# EAGLE library part LTC2266/67/68-14 (library linear-technology)
DUAL ADC 14-Bit, 125Msps/105Msps/80Msps Low Power
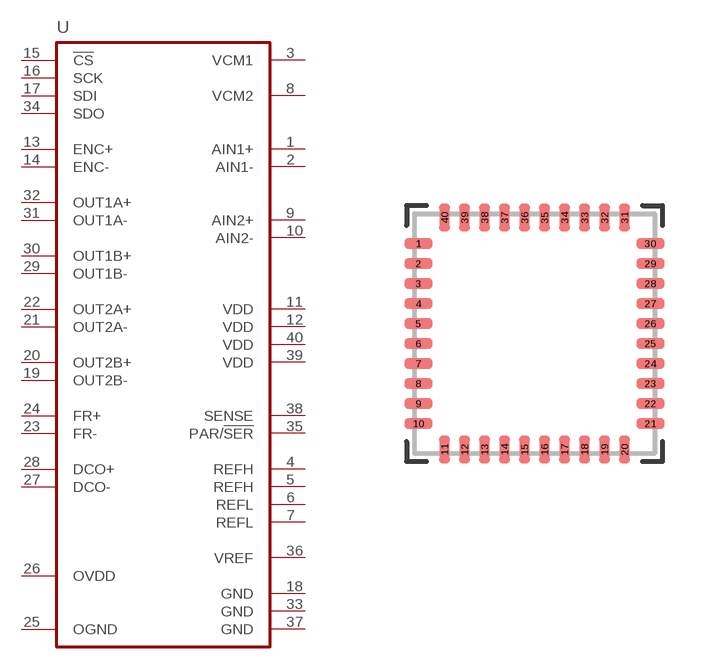
[diagram p45: symbol with the pads of QFN40-UJ; footprint QFN40-UJ]

Designator prefix U

## LTC2266/67/68-14 (P1I: o)  [QFN40-UJ]
1  AIN1+  in
2  AIN1-  in
3  VCM1  out
4  REFH  pwr
5  REFH  pwr
6  REFL  pwr
7  REFL  pwr
8  VCM2  out
9  AIN2+  in
10  AIN2-  in
11  VDD  pwr
12  VDD  pwr
13  ENC+  in
14  ENC-  in
15  !CS!  in
16  SCK  in
17  SDI  in
18  GND  pwr
19  OUT2B-  out
20  OUT2B+  out
21  OUT2A-  out
22  OUT2A+  out
23  FR-  out
24  FR+  out
25  OGND  pwr
26  OVDD  pwr
27  DCO-  out
28  DCO+  out
29  OUT1B-  out
30  OUT1B+  out
31  OUT1A-  out
32  OUT1A+  out
33  GND  pwr
34  SDO  out
35  PAR/!SER!  in
36  VREF  hiz
37  GND  pwr
38  SENSE  in
39  VDD  pwr
40  VDD  pwr

## Footprint QFN40-UJ (pad centres in mm)
QFN-40 UJ Package 40-Lead (6mm × 6mm) Plastic QFN (Reference LTC DWG # 05-08-1728)
smd 0.7 x 0.27: 1 -2.9,2.25; 2 -2.9,1.75; 3 -2.9,1.25; 4 -2.9,0.75; 5 -2.9,0.25; 6 -2.9,-0.25; 7 -2.9,-0.75; 8 -2.9,-1.25; 9 -2.9,-1.75; 10 -2.9,-2.25; 21 2.9,-2.25; 22 2.9,-1.75; 23 2.9,-1.25; 24 2.9,-0.75; 25 2.9,-0.25; 26 2.9,0.25; 27 2.9,0.75; 28 2.9,1.25; 29 2.9,1.75; 30 2.9,2.25
smd 0.27 x 0.7: 11 -2.25,-2.9; 12 -1.75,-2.9; 13 -1.25,-2.9; 14 -0.75,-2.9; 15 -0.25,-2.9; 16 0.25,-2.9; 17 0.75,-2.9; 18 1.25,-2.9; 19 1.75,-2.9; 20 2.25,-2.9; 31 2.25,2.9; 32 1.75,2.9; 33 1.25,2.9; 34 0.75,2.9; 35 0.25,2.9; 36 -0.25,2.9; 37 -0.75,2.9; 38 -1.25,2.9; 39 -1.75,2.9; 40 -2.25,2.9